# Altium schematic symbol library TGIS_Microcontrollers.SchLib: 18 symbols
Pins are listed as number, name and electrical type; pins without a type are passive.

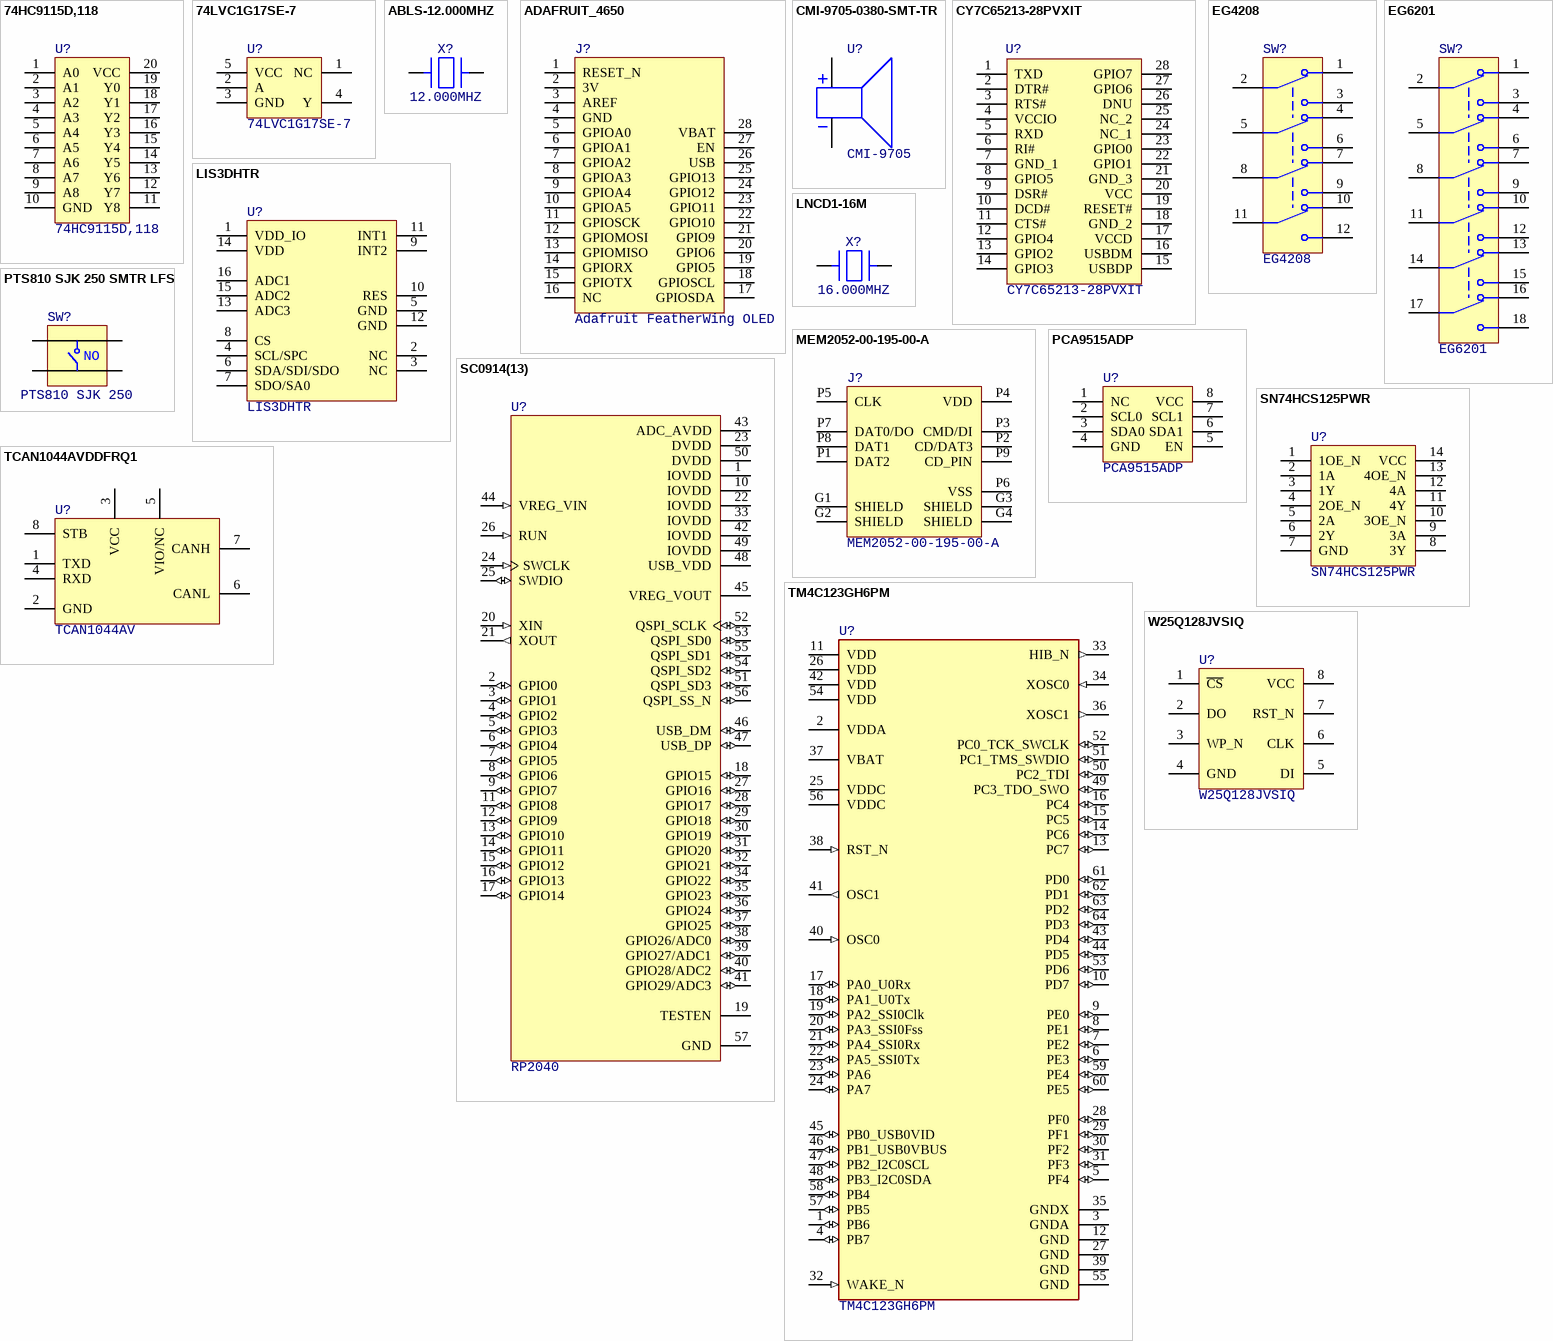
[diagram p0: symbols 74HC9115D,118 to W25Q128JVSIQ]

## 74HC9115D,118
designator U?
Buffer, Non-Inverting 9 Element 1 Bit per Element Open Drain Output 20-SO
footprint SOP65P780X200-28N
pins: 1 A0, 2 A1, 3 A2, 4 A3, 5 A4, 6 A5, 7 A6, 8 A7, 9 A8, 10 GND, 11 Y8, 12 Y7, 13 Y6, 14 Y5, 15 Y4, 16 Y3, 17 Y2, 18 Y1, 19 Y0, 20 VCC

## 74LVC1G17SE-7
designator U?
Buffer, Non-Inverting 1 Element 1 Bit per Element Push-Pull Output SOT-353
footprint SOT65P210X110-5N
pins: 1 NC, 2 A, 3 GND, 4 Y, 5 VCC

## ABLS-12.000MHZ
designator X?, comment 12.000MHZ
12 MHz ±20ppm Crystal 18pF 50 Ohms HC-49/US; Supplier 1: Digikey; Supplier Part Number 1: 535-9067-1-ND
footprint ABLS-12.000MHZ
pins: 1, 2

## ADAFRUIT_4650
designator J?, comment Adafruit FeatherWing OLED
Adafruit FeatherWing OLED - 128x64 OLED Add-on For Feather - STEMMA QT / Qwiic; Supplier 1: Digikey; Supplier Part Number 1: 1528-4650-ND
footprint ADAFRUIT_4650
pins: 1 RESET_N, 2 3V, 3 AREF, 4 GND, 5 GPIOA0, 6 GPIOA1, 7 GPIOA2, 8 GPIOA3, 9 GPIOA4, 10 GPIOA5, 11 GPIOSCK, 12 GPIOMOSI, 13 GPIOMISO, 14 GPIORX, 15 GPIOTX, 16 NC, 17 GPIOSDA, 18 GPIOSCL, 19 GPIO5, 20 GPIO6, 21 GPIO9, 22 GPIO10, 23 GPIO11, 24 GPIO12, 25 GPIO13, 26 USB, 27 EN, 28 VBAT

## CMI-9705-0380-SMT-TR
designator U?, comment CMI-9705
Buzzers Indicator, Internally Driven Magnetic 3 V 30mA 2.7kHz 80dB @ 3V, 10cm Surface Mount Solder Pads
footprint CUI_CMI-9705-0380-SMT-TR
pins: N, P

## CY7C65213-28PVXIT
designator U?
USB Interface IC 32KB USB-UART LP Bridge Controller; Manufacturer_Name: Infineon; Geometry.Height: 2mm; Manufacturer_Part_Number: CY7C65213-28PVXIT; Mouser Part Number: 727-CY7C6521328PVXIT; Mouser Price/Stock: https://www.mouser.co.uk/ProductDetail/Infineon-Technologies/CY7C65213-28PVXIT?qs=cwEsOGdHuFTfRgwUJVDa5g%3D%3D; Arrow Part Number: CY7C65213-28PVXIT; Arrow Price/Stock: https://www.arrow.com/en/products/cy7c65213-28pvxit/infineon-technologies-ag?region=nac; Datasheet Link: https://componentsearchengine.com/Datasheets/2/CY7C65213-28PVXIT.pdf
footprint SOP65P780X200-28N
pins: 1 TXD, 2 DTR#, 3 RTS#, 4 VCCIO, 5 RXD, 6 RI#, 7 GND_1, 8 GPIO5, 9 DSR#, 10 DCD#, 11 CTS#, 12 GPIO4, 13 GPIO2, 14 GPIO3, 15 USBDP, 16 USBDM, 17 VCCD, 18 GND_2, 19 RESET#, 20 VCC, 21 GND_3, 22 GPIO1, 23 GPIO0, 24 NC_1, 25 NC_2, 26 DNU, 27 GPIO6, 28 GPIO7

## EG4208
designator SW?
Slide Switch 4PDT Through Hole, Right Angle; Supplier 1: Digikey; Supplier Part Number 1: EG1914-ND
footprint SW_EG4208
pins: 1, 2, 3, 4, 5, 6, 7, 8, 9, 10, 11, 12

## EG6201
designator SW?
Slide Switch 6PDT Through Hole, Right Angle; Supplier 1: Digikey; Supplier Part Number 1: EG1925-ND
footprint SW_EG6201
pins: 1, 2, 3, 4, 5, 6, 7, 8, 9, 10, 11, 12, 13, 14, 15, 16, 17, 18

## LIS3DHTR
designator U?
Accelerometer X, Y, Z Axis ±2g, 4g, 8g, 16g 0.5Hz ~ 625Hz 16-LGA (3x3); Supplier 1: Digikey; Supplier Part Number 1: 497-10613-1-ND
footprint XDCR_LIS3DHTR
pins: 1 VDD_IO, 2 NC, 3 NC, 4 SCL/SPC, 5 GND, 6 SDA/SDI/SDO, 7 SDO/SA0, 8 CS, 9 INT2, 10 RES, 11 INT1, 12 GND, 13 ADC3, 14 VDD, 15 ADC2, 16 ADC1

## LNCD1-16M
designator X?, comment 16.000MHZ
16 MHz ±50ppm Crystal 8pF 120 Ohms 2-SMD, No Lead; Supplier 1: Digikey; Supplier Part Number 1: 535-9067-1-ND
footprint XTAL_NX5032GA-16.000000MHZ-LN-CD-1
pins: 1, 2

## MEM2052-00-195-00-A
designator J?
9 (8 + 1) Position Card Connector Secure Digital - microSD™ Surface Mount, Right Angle Gold
footprint GCT_MEM2052-00-195-00-A_REVA
pins: G1 SHIELD, G2 SHIELD, G3 SHIELD, G4 SHIELD, P1 DAT2, P2 CD/DAT3, P3 CMD/DI, P4 VDD, P5 CLK, P6 VSS, P7 DAT0/DO, P8 DAT1, P9 CD_PIN

## PCA9515ADP
designator U?
IC REDRIVER I2C 2CH 8TSSOP; Supplier 1: Digikey; Supplier Part Number 1: 568-1032-1-ND
footprint SOP65P490X110-8N
pins: 1 NC, 2 SCL0, 3 SDA0, 4 GND, 5 EN, 6 SDA1, 7 SCL1, 8 VCC

## PTS810 SJK 250 SMTR LFS
designator SW?, comment PTS810 SJK 250
Tactile Switch SPST-NO Top Actuated Surface Mount; Supplier 1: Digikey; Supplier Part Number 1: CKN10503CT-ND
footprint SW_PTS810_SJM_250_SMTR_LFS
pins: 1, 2, 3, 4
text: NO

## SC0914(13)
designator U?, comment RP2040
ARM® Cortex®-M0+ - Microcontroller IC 32-Bit Dual-Core 133MHz External Program Memory 56-QFN (7x7); MF: Raspberry Pi; MP: SC0914(13); SnapEDA_Link: https://www.snapeda.com/parts/SC0914(13)/Raspberry+Pi/view-part/?ref=snap; Package: VFQFN-56 Raspberry Pi; Value: *; Check_prices: https://www.snapeda.com/parts/SC0914(13)/Raspberry+Pi/view-part/?ref=eda; Supplier 1: Digikey; Supplier Part Number 1: 2648-SC0914(13)CT-ND
footprint QFN40P700X700X90-57N
pins: 1 IOVDD (power), 2 GPIO0 (io), 3 GPIO1 (io), 4 GPIO2 (io), 5 GPIO3 (io), 6 GPIO4 (io), 7 GPIO5 (io), 8 GPIO6 (io), 9 GPIO7 (io), 10 IOVDD (power), 11 GPIO8 (io), 12 GPIO9 (io), 13 GPIO10 (io), 14 GPIO11 (io), 15 GPIO12 (io), 16 GPIO13 (io), 17 GPIO14 (io), 18 GPIO15 (io), 19 TESTEN, 20 XIN (in), 21 XOUT (out), 22 IOVDD (power), 23 DVDD (power), 24 SWCLK (in), 25 SWDIO (io), 26 RUN (in), 27 GPIO16 (io), 28 GPIO17 (io), 29 GPIO18 (io), 30 GPIO19 (io), 31 GPIO20 (io), 32 GPIO21 (io), 33 IOVDD (power), 34 GPIO22 (io), 35 GPIO23 (io), 36 GPIO24 (io), 37 GPIO25 (io), 38 GPIO26/ADC0 (io), 39 GPIO27/ADC1 (io), 40 GPIO28/ADC2 (io), 41 GPIO29/ADC3 (io), 42 IOVDD (power), 43 ADC_AVDD (power), 44 VREG_VIN (in), 45 VREG_VOUT (power), 46 USB_DM (io), 47 USB_DP (io), 48 USB_VDD (power), 49 IOVDD (power), 50 DVDD (power), 51 QSPI_SD3 (io), 52 QSPI_SCLK (io), 53 QSPI_SD0 (io), 54 QSPI_SD2 (io), 55 QSPI_SD1 (io), 56 QSPI_SS_N (io), 57 GND (power)

## SN74HCS125PWR
designator U?
Buffer, Non-Inverting 4 Element 1 Bit per Element 3-State Output 14-TSSOP; Supplier 1: Texas Instruments; Supplier Part Number 1: SN74HCS125PWR
footprint SOP65P640X120-14N
pins: 1 1OE_N, 2 1A, 3 1Y, 4 2OE_N, 5 2A, 6 2Y, 7 GND, 8 3Y, 9 3A, 10 3OE_N, 11 4Y, 12 4A, 13 4OE_N, 14 VCC

## TCAN1044AVDDFRQ1
designator U?, comment TCAN1044AV
1/1 Transceiver Half CANbus TSOT-23-8; Supplier 1: Digikey; Supplier Part Number 1: 296-TCAN1057ADDFRQ1CT-ND
footprint SOT65P280X110-8N
pins: 1 TXD, 2 GND, 3 VCC, 4 RXD, 5 VIO/NC, 6 CANL, 7 CANH, 8 STB

## TM4C123GH6PM
designator U?
Supplier 1: Texas Instruments; Supplier Part Number 1: TM4C123GH6PMT7R
footprint TM4C123GH6PM (TSQFP, 64-Leads, Body 10.00x10.00mm, Pitch 0.50mm, IPC Medium Density)
pins: 1 PB6 (io), 2 VDDA (power), 3 GNDA (power), 4 PB7 (io), 5 PF4 (io), 6 PE3 (io), 7 PE2 (io), 8 PE1 (io), 9 PE0 (io), 10 PD7 (io), 11 VDD (power), 12 GND (power), 13 PC7 (io), 14 PC6 (io), 15 PC5 (io), 16 PC4 (io), 17 PA0_U0Rx (io), 18 PA1_U0Tx (io), 19 PA2_SSI0Clk (io), 20 PA3_SSI0Fss (io), 21 PA4_SSI0Rx (io), 22 PA5_SSI0Tx (io), 23 PA6 (io), 24 PA7 (io), 25 VDDC (power), 26 VDD (power), 27 GND (power), 28 PF0 (io), 29 PF1 (io), 30 PF2 (io), 31 PF3 (io), 32 WAKE_N (in), 33 HIB_N (out), 34 XOSC0 (in), 35 GNDX (power), 36 XOSC1 (out), 37 VBAT (power), 38 RST_N (in), 39 GND (power), 40 OSC0 (in), 41 OSC1 (out), 42 VDD (power), 43 PD4 (io), 44 PD5 (io), 45 PB0_USB0VID (io), 46 PB1_USB0VBUS (io), 47 PB2_I2C0SCL (io), 48 PB3_I2C0SDA (io), 49 PC3_TDO_SWO (io), 50 PC2_TDI (io), 51 PC1_TMS_SWDIO (io), 52 PC0_TCK_SWCLK (io), 53 PD6 (io), 54 VDD (power), 55 GND (power), 56 VDDC (power), 57 PB5 (io), 58 PB4 (io), 59 PE4 (io), 60 PE5 (io), 61 PD0 (io), 62 PD1 (io), 63 PD2 (io), 64 PD3 (io)

## W25Q128JVSIQ
designator U?
FLASH - NOR Memory IC 128Mbit SPI - Quad I/O, QPI, DTR 133 MHz 8-SOIC; Supplier 1: Digikey; Supplier Part Number 1: W25Q128JVSIQCT-ND
footprint SOIC127P790X216-8N
pins: 1 ~{CS}, 2 DO, 3 WP_N, 4 GND, 5 DI, 6 CLK, 7 RST_N, 8 VCC